# Altium schematic symbol library KF301-2P.SchLib: 1 symbol
Pins are listed as number, name and electrical type; pins without a type are passive.

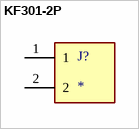
[diagram p0: symbol KF301-2P]

## KF301-2P
designator J?
2 Pin Terminal Block 5mm Pitch; MP: KF301-2P; MF: {'manufacturer': u'Handson Technology'}; Value: *; Price: None; Package: None; Availability: Unavailable
footprint HANDSON_KF301-2P
pins: 1, 2